# EAGLE library part TDA2009 (library ~~linear)
Power OP AMP
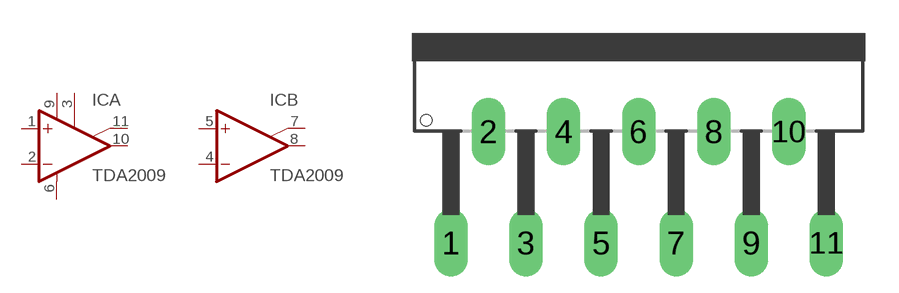
[diagram p141: symbol with the pads of SIP11; footprint SIP11]

Designator prefix IC; gates A=2005 B=2005A

## TDA2009T  [SIP11]
1  A:+IN  in
2  A:-IN  in
3  A:SVRR  pas
4  B:-IN  in
5  B:+IN  in
6  A:GND  pwr
7  B:BTSP  pas
8  B:OUT  out
9  A:V+  pwr
10  A:OUT  out
11  A:BTSP  pas

## Footprint SIP11 (pad centres in mm)
TO-220 11 lead, National Semiconductor
drill 1.016 long: 1 -8.509,-9.525; 2 -6.807,-4.47; 3 -5.105,-9.525; 4 -3.404,-4.47; 5 -1.702,-9.525; 6 0,-4.47; 7 1.702,-9.525; 8 3.404,-4.47; 9 5.105,-9.525; 10 6.807,-4.47; 11 8.509,-9.525